# Altium footprint library components.PcbLib: 11 footprints
Each footprint in its own frame and in the unit in brackets; x right, y up, seen from the top. Pads: shape width x height; smd on the part's side, far side on the other; paste and mask are expansions set on the pad; w line width, h text height; cw(c..) or ccw(c..) is an arc to the next point about the centre after c.
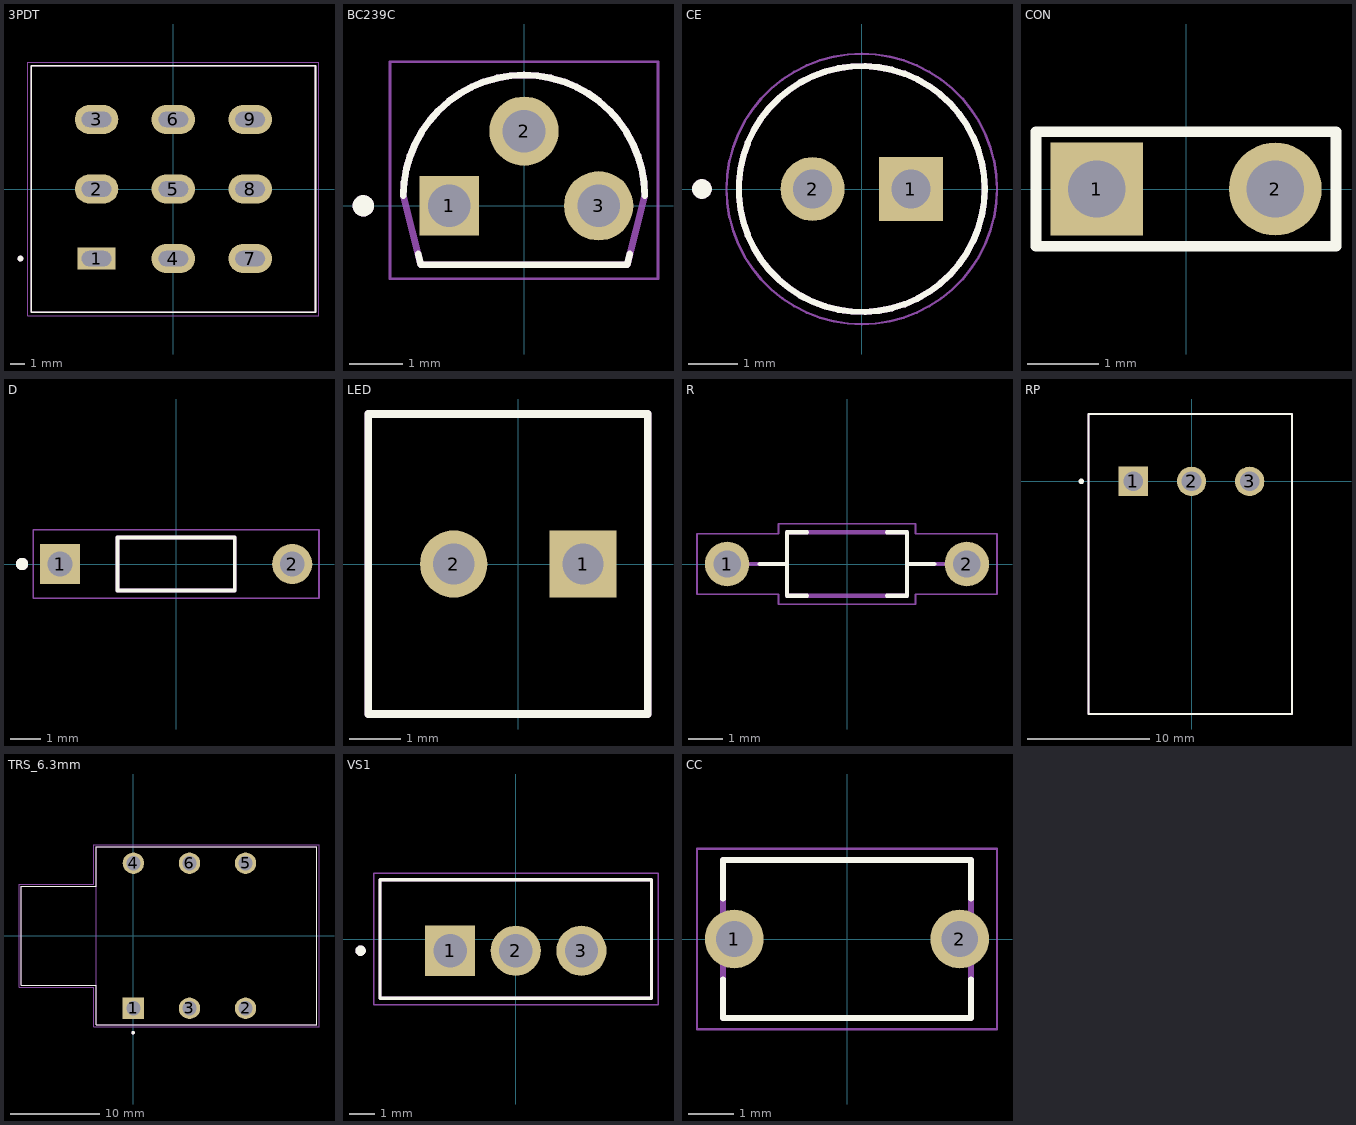
[diagram p0: the footprints below, top view; thin cyan lines are the x and y axes]

## 3PDT [mm]
height 38.2
pads (9):
  rect 2.6x1.5 / inner oval 2.6x1.6 / far side rect 3x2 hole 1.05 slot 2.05 at 0 deg: 1(-5.3,-4.8)
  oval 3x2 hole 1.05 slot 2.05 at 0 deg unplated: 2(-5.3,0) 3(-5.3,4.8) 4(0,-4.8) 5(0,0) 6(0,4.8) 7(5.3,-4.8) 8(5.3,0) 9(5.3,4.8)
Top Overlay:
  circle w0.2: c-10.55,-4.8 r0.1
  lines w0.127: -9.8,-8.5 -9.8,8.5 9.8,8.5 9.8,-8.5 -9.8,-8.5
Mechanical 13:
  circle w0.2: c-10.55,-4.8 r0.1
  lines w0.127: -9.8,-8.5 -9.8,8.5 9.8,8.5 9.8,-8.5 -9.8,-8.5
Mechanical 15:
  lines w0.05: -10.05,-8.75 -10.05,8.75 10.05,8.75 10.05,-8.75 -10.05,-8.75
3D body "3PDT.step": height 38.5, standoff -2.7, extent -9.8,-8.5 9.8,8.5

## BC239C [mm] "TO-92"
pads (3):
  rect 1.12x1.12 hole 0.8: 1(-1.4,0)
  round 1.3 hole 0.8: 2(0,1.4) 3(1.4,0)
Top Overlay:
  circle w0.2: c-3.013,0 r0.1
  lines w0.127: -2.262,0.19 cw(c0,0.19) 2.262,0.19 ; -1.984,-0.9 -1.933,-1.105 1.933,-1.105 1.984,-0.9
Mechanical 1:
  lines w0.127: -2.262,0.19 cw(c0,0.19) 2.262,0.19 1.933,-1.105 -1.933,-1.105 -2.262,0.19
Mechanical 13:
  circle w0.2: c-3.013,0 r0.1
Mechanical 15:
  lines w0.05: -2.512,-1.37 -2.512,2.703 2.512,2.703 2.512,-1.37 -2.512,-1.37
3D body "step_temp.STEP": height 5.49, standoff -3.91, extent -2.395,-1.524 2.395,2.409

## CE [mm] "50v 1uF"
pads (2):
  rect 1.3x1.3 hole 0.8: 1(1,0)
  round 1.3 hole 0.8: 2(-1,0)
Top Overlay:
  circle w0.2: c-3.25,0 r0.1
  circle w0.127: c0,0 r2.5
Mechanical 13:
  circle w0.2: c-3.25,0 r0.1
  circle w0.127: c0,0 r2.5
Mechanical 15:
  circle w0.05: c0,0 r2.75
3D body "step_temp.STEP": height 12, standoff -19, extent -2.5,-2.486 2.5,2.486

## CON [mm]
pads (2):
  rect 1.3x1.3 hole 0.8 paste-2539.97 mask+0.102: 1(-1.25,0)
  round 1.3 hole 0.8 paste-2539.97 mask+0.102: 2(1.25,0)
Top Overlay:
  lines w0.15: -2.1,-0.8 2.1,-0.8 2.1,0.8 -2.1,0.8 -2.1,-0.8
Mechanical 15:
  lines w0.05: -2.1,-0.8 2.1,-0.8 2.1,0.8 -2.1,0.8 -2.1,-0.8

## D [mm] "1N914"
height 1.91
pads (2):
  rect 1.3x1.3 hole 0.8: 1(-3.768,0)
  round 1.3 hole 0.8: 2(3.768,0)
Top Overlay:
  circle w0.2: c-5,0 r0.1
  lines w0.127: -1.903,-0.86 -1.903,0.86 1.903,0.86 1.903,-0.86 -1.903,-0.86
Mechanical 13:
  circle w0.2: c-5,0 r0.1
  lines w0.127: -1.903,-0.86 -1.903,0.86 1.903,0.86 1.903,-0.86 -1.903,-0.86
Mechanical 15:
  lines w0.05: -4.637,-1.11 -4.637,1.11 4.637,1.11 4.637,-1.11 -4.637,-1.11
3D body "D-1N914.STEP": height 1.9, standoff -22.92, extent -4.051,-0.92 3.956,0.99

## LED [mm]
pads (2):
  rect 1.3x1.3 hole 0.8 paste-2539.97 mask+0.102: 1(1.25,0)
  round 1.3 hole 0.8 paste-2539.97 mask+0.102: 2(-1.25,0)
Top Overlay:
  lines w0.15: -2.9,-2.9 2.5,-2.9 2.5,0 2.5,2.9 -2.9,2.9 -2.9,-2.9
Mechanical 15:
  lines w0.15: -2.9,-2.9 -2.9,2.9 2.5,2.9 2.5,-2.9 -2.9,-2.9
3D body "LED_5mm.STEP": height 9.6, standoff -25.4, extent -2.9,-2.897 2.5,2.897

## R [mm]
pads (2):
  round 1.3 hole 0.8: 1(-3.5,0) 2(3.5,0)
Top Overlay:
  lines w0.127: -2.55,0 -1.75,0 ; -1.17,-0.925 -1.75,-0.925 -1.75,0 ; -1.17,0.925 -1.75,0.925 -1.75,0 ; 1.17,-0.925 1.75,-0.925 1.75,0 ; 1.17,0.925 1.75,0.925 1.75,0 ; 2.55,0 1.75,0
Mechanical 1:
  lines w0.127: -2.925,0 -1.75,0 ; 2.925,0 1.75,0 ; -1.75,0 -1.75,-0.925 1.75,-0.925 1.75,0 ; -1.75,0 -1.75,0.925 1.75,0.925 1.75,0
Mechanical 15:
  lines w0.05: -4.38,-0.88 -2,-0.88 -2,-1.175 2,-1.175 2,-0.88 4.38,-0.88 4.38,0.88 2,0.88 2,1.175 -2,1.175 -2,0.88 -4.38,0.88 -4.38,-0.88
3D body "step_temp.STEP": height 1.85, standoff -23.57, extent -3.725,-0.925 3.725,0.925

## RP [mm]
pads (3):
  rect 2.4x2.4 hole 1.6 paste-2539.97 mask+0.102: 1(-4.75,0)
  round 2.4 hole 1.6 paste-2539.97 mask+0.102: 2(0,0) 3(4.75,0)
Top Overlay:
  circle w0.254: c-9,0 r0.1
  lines w0.15: -8.4,-19 8.2,-19 8.2,5.5 -8.4,5.5 -8.4,-19
Mechanical 15:
  lines w0.15: -8.4,-19 -8.4,5.5 8.2,5.5 8.2,-19 -8.4,-19
3D body "Potentiometer.step": height 21.25, standoff -4.3, extent -8.25,-18.9 8.25,5.4

## TRS_6.3mm [mm]
height 15.7
pads (6):
  rect 2.4x2.4 / inner round 2.4 / far side rect 2.4x2.4 hole 1.6: 1(0,-8.15)
  round 2.4 hole 1.6: 2(12.6,-8.15) 3(6.3,-8.15) 4(0,8.15) 5(12.6,8.15) 6(6.3,8.15)
Top Overlay:
  circle w0.2: c-0.04,-10.88 r0.1
  lines w0.127: -12.6,-5.556 -12.6,5.556 -4.2,5.556 -4.2,10 20.6,10 20.6,-10 -4.2,-10 -4.2,-5.556 -12.6,-5.556
Mechanical 1:
  lines w0.127: -4.2,-5.556 -4.2,5.556
Mechanical 13:
  circle w0.2: c-0.04,-10.88 r0.1
  lines w0.127: -12.6,-5.556 -12.6,5.556 -4.2,5.556 -4.2,5.6 -4.2,10 20.6,10 20.6,-10 -4.2,-10 -4.2,-5.6 -4.2,-5.556 -12.6,-5.556
Mechanical 15:
  lines w0.05: -12.85,-5.806 -12.85,5.806 -4.45,5.806 -4.45,10.25 20.85,10.25 20.85,-10.25 -4.45,-10.25 -4.45,-5.806 -12.85,-5.806
3D body "TRS.step": height 15.74, standoff -3.75, extent -12.6,-10 20.6,10

## VS1 [mm]
pads (3):
  rect 1.94x1.94 hole 1.29: 1(-2.54,-0.453)
  round 1.94 hole 1.29: 2(0,-0.453) 3(2.54,-0.453)
Top Overlay:
  circle w0.2: c-6,-0.453 r0.1
  lines w0.127: -5.25,-2.295 -5.25,2.295 5.25,2.295 5.25,-2.295 -5.25,-2.295
Mechanical 13:
  circle w0.2: c-6,-0.453 r0.1
  lines w0.127: -5.25,-2.295 -5.25,2.295 5.25,2.295 5.25,-2.295 -5.25,-2.295
Mechanical 15:
  lines w0.05: -5.5,-2.545 -5.5,2.545 5.5,2.545 5.5,-2.545 -5.5,-2.545
3D body "step_temp.STEP": height 20.2, standoff -10.59, extent -5.25,-2.295 5.25,2.295

## СC [mm]
pads (2):
  round 1.3 hole 0.8: 1(-2.5,0) 2(2.5,0)
Top Overlay:
  lines w0.127: -2.75,-0.895 -2.75,-1.75 2.75,-1.75 2.75,-0.895 ; -2.75,0.895 -2.75,1.75 2.75,1.75 2.75,0.895
Mechanical 13:
  lines w0.127: -2.75,-1.75 2.75,-1.75 2.75,1.75 -2.75,1.75 -2.75,-1.75
Mechanical 15:
  lines w0.05: -3.325,-2 3.325,-2 3.325,2 -3.325,2 -3.325,-2
3D body "Ceramic_cap.STEP": height 6, standoff -9, extent -2.75,-1.75 2.75,1.75